# Altium footprint library avago.PCBLIB: 10 footprints
Each footprint in its own frame and in the unit in brackets; x right, y up, seen from the top. Pads: shape width x height; smd on the part's side, far side on the other; paste and mask are expansions set on the pad; w line width, h text height; cw(c..) or ccw(c..) is an arc to the next point about the centre after c.
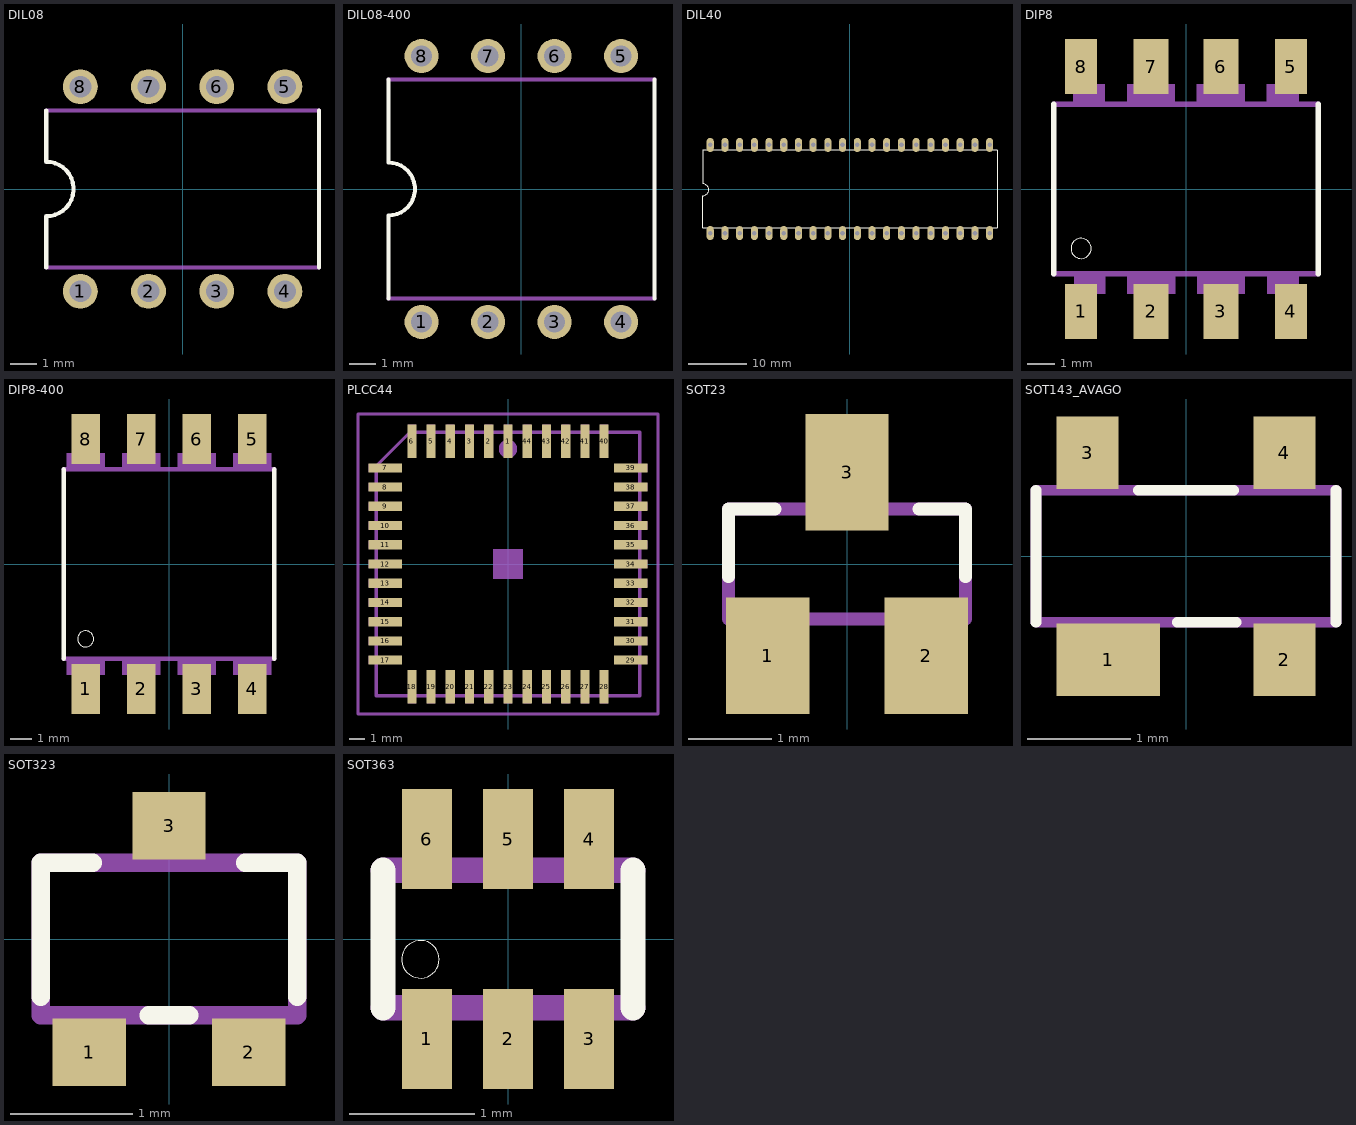
[diagram p0: the footprints below, top view; thin cyan lines are the x and y axes]

## DIL08 [mil]
pads (8):
  round 51.18 hole 32: 1(-150,-150) 2(-50,-150) 3(50,-150) 4(150,-150) 5(150,150) 6(50,150) 7(-50,150) 8(-150,150)
Top Overlay:
  lines w6: -200,-115 -200,-40 ccw(c-200,0) -200,40 -200,115 ; 200,-115 200,115
Mechanical 16:
  lines w6: -200,-115 200,-115 ; -200,115 200,115

## DIL08-400 [mil]
pads (8):
  round 51.18 hole 32: 1(-150,-200) 2(-50,-200) 3(50,-200) 4(150,-200) 5(150,200) 6(50,200) 7(-50,200) 8(-150,200)
Top Overlay:
  lines w6: -200,-165 -200,-40 ccw(c-200,0) -200,40 -200,165 ; 200,-165 200,165
Mechanical 16:
  lines w6: -200,-165 200,-165 ; -200,165 200,165

## DIL40 [mil]
pads (40):
  oval 48x96 hole 32: 1(-950,-300) 2(-850,-300) 3(-750,-300) 4(-650,-300) 5(-550,-300) 6(-450,-300) 7(-350,-300) 8(-250,-300) 9(-150,-300) 10(-50,-300) 11(50,-300) 12(150,-300) 13(250,-300) 14(350,-300) 15(450,-300) 16(550,-300) 17(650,-300) 18(750,-300) 19(850,-300) 20(950,-300) 21(950,300) 22(850,300) 23(750,300) 24(650,300) 25(550,300) 26(450,300) 27(350,300) 28(250,300) 29(150,300) 30(50,300) 31(-50,300) 32(-150,300) 33(-250,300) 34(-350,300) 35(-450,300) 36(-550,300) 37(-650,300) 38(-750,300) 39(-850,300) 40(-950,300)
Top Overlay:
  lines w6: -1000,-265 1000,-265 1000,265 -1000,265 -1000,35 cw(c-1000,-5) -1000,-45 -1000,-265

## DIP8 [mm]
pads (8):
  rect 1.16x2 smd: 1(-3.81,-4.45) 4(3.81,-4.45) 5(3.81,4.45) 8(-3.81,4.45)
  rect 1.27x2 smd: 2(-1.27,-4.45) 3(1.27,-4.45) 6(1.27,4.45) 7(-1.27,4.45)
Top Overlay:
  circle w0: c-3.81,-2.159 r0.367
  lines w0.203: -4.81,-3.075 -4.81,3.075 ; 4.81,-3.075 4.81,3.075
Mechanical 16:
  rectangle: -4.09,-4.825 -3.53,-3.81
  rectangle: -1.55,-4.825 -0.99,-3.81
  rectangle: 0.99,-4.825 1.55,-3.81
  rectangle: 3.53,-4.825 4.09,-3.81
  rectangle: 3.53,3.81 4.09,4.825
  rectangle: 0.99,3.81 1.55,4.825
  rectangle: -1.55,3.81 -0.99,4.825
  rectangle: -4.09,3.81 -3.53,4.825
  region: -0.4,3.81 -2.15,3.81 -2.15,3.1 -0.4,3.1
  region: -2.94,3.81 -4.1,3.81 -4.1,3.1 -2.94,3.1
  region: 2.14,3.81 0.39,3.81 0.39,3.1 2.14,3.1
  region: 4.1,3.81 2.93,3.81 2.93,3.1 4.1,3.1
  rectangle: -4.075,-3.81 -2.93,-3.1
  rectangle: -2.14,-3.81 -0.39,-3.1
  rectangle: 0.4,-3.81 2.15,-3.1
  rectangle: 2.94,-3.81 4.1,-3.1
  lines w0.203: -4.81,-3.075 4.81,-3.075 ; -4.81,3.075 4.81,3.075

## DIP8-400 [mil]
pads (8):
  rect 51.18x90.16 smd: 1(-150,-225.2) 2(-50,-225.2) 3(50,-225.2) 4(150,-225.2) 5(150,225.2) 6(50,225.2) 7(-50,225.2) 8(-150,225.2)
Top Overlay:
  circle w0: c-150,-135 r14.44
  lines w8: -189.37,-171.06 -189.37,171.06 ; 189.37,-171.06 189.37,171.06
Mechanical 16:
  rectangle: -61.02,-239.96 -38.98,-200
  rectangle: 38.98,-239.96 61.02,-200
  rectangle: 38.98,200 61.02,239.96
  rectangle: -61.02,200 -38.98,239.96
  region: -15.75,200 -84.65,200 -84.65,172.05 -15.75,172.05
  region: 84.25,200 15.35,200 15.35,172.05 84.25,172.05
  rectangle: -84.25,-200 -15.35,-172.05
  rectangle: 15.75,-200 84.65,-172.05
  rectangle: -161.02,200 -138.98,239.96
  region: -115.75,200 -184.65,200 -184.65,172.05 -115.75,172.05
  rectangle: 138.98,200 161.02,239.96
  region: 184.25,200 115.35,200 115.35,172.05 184.25,172.05
  region: -138.98,-200 -161.02,-200 -161.02,-239.96 -138.98,-239.96
  rectangle: -184.25,-200 -115.35,-172.05
  region: 161.02,-200 138.98,-200 138.98,-239.96 161.02,-239.96
  rectangle: 115.75,-200 184.65,-172.05
  lines w8: -189.37,-171.06 189.37,-171.06 ; -189.37,171.06 189.37,171.06

## PLCC44 [mil]
pads (44):
  rect 23.62x86.61 smd: 1(0,318.9) 2(-50,318.9) 3(-100,318.9) 4(-150,318.9) 5(-200,318.9) 6(-250,318.9) 18(-250,-318.9) 19(-200,-318.9) 20(-150,-318.9) 21(-100,-318.9) 22(-50,-318.9) 23(0,-318.9) 24(50,-318.9) 25(100,-318.9) 26(150,-318.9) 27(200,-318.9) 28(250,-318.9) 40(250,318.9) 41(200,318.9) 42(150,318.9) 43(100,318.9) 44(50,318.9)
  rect 86.61x23.62 smd: 7(-318.9,250) 8(-318.9,200) 9(-318.9,150) 10(-318.9,100) 11(-318.9,50) 12(-318.9,0) 13(-318.9,-50) 14(-318.9,-100) 15(-318.9,-150) 16(-318.9,-200) 17(-318.9,-250) 29(318.9,-250) 30(318.9,-200) 31(318.9,-150) 32(318.9,-100) 33(318.9,-50) 34(318.9,0) 35(318.9,50) 36(318.9,100) 37(318.9,150) 38(318.9,200) 39(318.9,250)
Mechanical 6:
  rectangle: -39.37,-39.37 39.37,39.37
Mechanical 16:
  circle w24: c0,299.21 r11.81
  rectangle: -10.24,344.49 10.24,362.2
  rectangle: -60.24,344.49 -39.76,362.2
  rectangle: -110.24,344.49 -89.76,362.2
  rectangle: -160.24,344.49 -139.76,362.2
  rectangle: -210.24,344.49 -189.76,362.2
  rectangle: -260.24,344.49 -239.76,362.2
  rectangle: -362.2,239.76 -344.49,260.24
  rectangle: -362.2,189.76 -344.49,210.24
  rectangle: -362.2,139.76 -344.49,160.24
  rectangle: -362.2,89.76 -344.49,110.24
  rectangle: -362.2,39.76 -344.49,60.24
  rectangle: -362.2,-10.24 -344.49,10.24
  rectangle: -362.2,-60.24 -344.49,-39.76
  rectangle: -362.2,-110.24 -344.49,-89.76
  rectangle: -362.2,-160.24 -344.49,-139.76
  rectangle: -362.2,-210.24 -344.49,-189.76
  rectangle: -362.2,-260.24 -344.49,-239.76
  rectangle: -260.24,-362.2 -239.76,-344.49
  rectangle: -210.24,-362.2 -189.76,-344.49
  rectangle: -160.24,-362.2 -139.76,-344.49
  rectangle: -110.24,-362.2 -89.76,-344.49
  rectangle: -60.24,-362.2 -39.76,-344.49
  rectangle: -10.24,-362.2 10.24,-344.49
  rectangle: 39.76,-362.2 60.24,-344.49
  rectangle: 89.76,-362.2 110.24,-344.49
  rectangle: 139.76,-362.2 160.24,-344.49
  rectangle: 189.76,-362.2 210.24,-344.49
  rectangle: 239.76,-362.2 260.24,-344.49
  rectangle: 344.49,-260.24 362.2,-239.76
  rectangle: 344.49,-210.24 362.2,-189.76
  rectangle: 344.49,-160.24 362.2,-139.76
  rectangle: 344.49,-110.24 362.2,-89.76
  rectangle: 344.49,-60.24 362.2,-39.76
  rectangle: 344.49,-10.24 362.2,10.24
  rectangle: 344.49,39.76 362.2,60.24
  rectangle: 344.49,89.76 362.2,110.24
  rectangle: 344.49,139.76 362.2,160.24
  rectangle: 344.49,189.76 362.2,210.24
  rectangle: 344.49,239.76 362.2,260.24
  rectangle: 239.76,344.49 260.24,362.2
  rectangle: 189.76,344.49 210.24,362.2
  rectangle: 139.76,344.49 160.24,362.2
  rectangle: 89.76,344.49 110.24,362.2
  rectangle: 39.76,344.49 60.24,362.2
  lines w8: -342.52,-342.52 -342.52,254.53 -254.53,342.52 342.52,342.52 342.52,-342.52 -342.52,-342.52
  text "IPC PLCC-44 Suare" at -234.65,168.11 h37.2
Mechanical 27:
  lines w7.87: -389.88,-389.88 389.88,-389.88 389.88,389.88 -389.88,389.88 -389.88,-389.88

## SOT23 [mm]
pads (3):
  rect 1x1.4 smd: 1(-0.95,-1.1) 2(0.95,-1.1) 3(0,1.1)
Top Overlay:
  lines w0.152: -1.422,-0.152 -1.422,0.66 -0.864,0.66 ; 0.864,0.66 1.422,0.66 1.422,-0.152
Mechanical 16:
  rectangle: -0.229,0.711 0.229,1.295
  rectangle: 0.711,-1.295 1.168,-0.711
  rectangle: -1.168,-1.295 -0.711,-0.711
  lines w0.152: -1.422,-0.66 1.422,-0.66 1.422,0.66 -1.422,0.66 -1.422,-0.66

## SOT143_AVAGO [mm]
pads (4):
  rect 1x0.7 smd: 1(-0.75,-1)
  rect 0.6x0.7 smd: 2(0.95,-1) 3(-0.95,1) 4(0.95,1)
Top Overlay:
  lines w0.102: -1.448,-0.635 -1.448,0.635 ; -0.46,0.635 0.46,0.635 ; -0.085,-0.635 0.485,-0.635 ; 1.448,-0.635 1.448,0.635
Mechanical 16:
  rectangle: 0.737,-1.321 1.194,-0.635
  rectangle: 0.711,0.635 1.168,1.321
  rectangle: -1.143,0.635 -0.686,1.321
  rectangle: -1.194,-1.321 -0.305,-0.635
  lines w0.102: -1.448,-0.635 1.448,-0.635 1.448,0.635 -1.448,0.635 -1.448,-0.635

## SOT323 [mm]
pads (3):
  rect 0.6x0.55 smd: 1(-0.65,-0.925) 2(0.65,-0.925) 3(0,0.925)
Top Overlay:
  lines w0.152: -1.047,-0.473 -1.047,0.623 -0.623,0.623 ; -0.165,-0.623 0.165,-0.623 ; 0.623,0.623 1.047,0.623 1.047,-0.473
Mechanical 16:
  rectangle: -0.2,0.625 0.2,1.1
  region: -0.45,-0.625 -0.85,-0.625 -0.85,-1.1 -0.45,-1.1
  region: 0.85,-0.625 0.45,-0.625 0.45,-1.1 0.85,-1.1
  lines w0.152: -1.047,-0.623 1.047,-0.623 1.047,0.623 -1.047,0.623 -1.047,-0.623

## SOT363 [mil]
pads (6):
  rect 15.75x31.5 smd: 1(-25.59,-31.5) 2(0,-31.5) 3(25.59,-31.5) 4(25.59,31.5) 5(0,31.5) 6(-25.59,31.5)
Top Overlay:
  circle w0: c-27.56,-6.4 r5.91
  lines w8: -39.37,-21.65 -39.37,21.65 ; 39.37,-21.65 39.37,21.65
Mechanical 16:
  rectangle: -31.5,-43.31 -19.69,-23.62
  rectangle: -5.91,-43.31 5.91,-23.62
  rectangle: 19.69,-43.31 31.5,-23.62
  rectangle: 19.69,23.62 31.5,43.31
  rectangle: -5.91,23.62 5.91,43.31
  rectangle: -31.5,23.62 -19.69,43.31
  lines w8: -39.37,-21.65 39.37,-21.65 ; -39.37,21.65 39.37,21.65